# EAGLE library part RFM22B (library RFM)
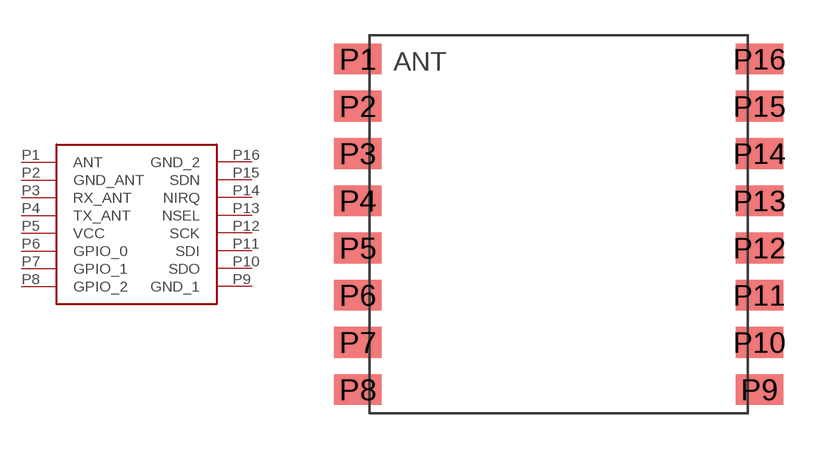
[diagram p0: symbol with the pads of RFM22B; footprint RFM22B]

Designator prefix -

## RFM22B  [RFM22B]
P1  ANT
P2  GND_ANT
P3  RX_ANT
P4  TX_ANT
P5  VCC
P6  GPIO_0
P7  GPIO_1
P8  GPIO_2
P9  GND_1
P10  SDO
P11  SDI
P12  SCK
P13  NSEL
P14  NIRQ
P15  SDN
P16  GND_2

## Footprint RFM22B (pad centres in mm)
smd 2 x 1.3: P1 -8.5,7; P2 -8.5,5; P3 -8.5,3; P4 -8.5,1; P5 -8.5,-1; P6 -8.5,-3; P7 -8.5,-5; P8 -8.5,-7; P9 8.5,-7; P10 8.5,-5; P11 8.5,-3; P12 8.5,-1; P13 8.5,1; P14 8.5,3; P15 8.5,5; P16 8.5,7